# EAGLE library part MS5607-02BA (library df4iah_sensors)
MS5607-02BA03 Pressure Sensor Datasheet <http://www.te.com/commerce/DocumentDelivery/DDEController?Action=srchrtrv&DocNm=MS5607-02BA03&DocType=Data+Sheet&DocLang=English> Specifications: Pin Count: 8 Dimensions: 3.0 x 5.0 x 0.95 mm Pitch: 1.25 mm
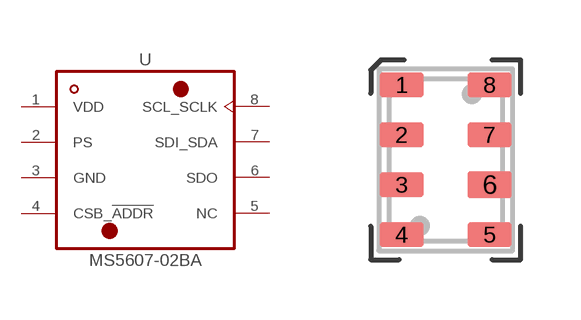
[diagram p2: symbol with the pads of MS5607-02BA; footprint MS5607-02BA]

Designator prefix U

## MS5607-02BA03  [MS5607-02BA]
1  VDD  pwr
2  PS  in
3  GND  pas
4  CSB_!ADDR  in
5  NC  nc
6  SDO  out
7  SDI_SDA
8  SCL_SCLK  in

## Footprint MS5607-02BA (pad centres in mm)
MS5607-02BA Pressure Sensor Datasheet <http://www.te.com/commerce/DocumentDelivery/DDEController?Action=srchrtrv&DocNm=MS5607-02BA03&DocType=Data+Sheet&DocLang=English> Specifications: Pin Count: 8 Dimensions: 3.0 x 5.0 x 0.95 mm Pitch: 1.25 mm
smd 1.1 x 0.6: 1 -1.1,1.875; 2 -1.1,0.625; 3 -1.1,-0.625; 4 -1.1,-1.875; 5 1.1,-1.875; 7 1.1,0.625; 8 1.1,1.875
smd 1.1 x 0.67: 6 1.1,-0.625